# Altium integrated library AD8226ARZ.IntLib: 1 symbol
Pins are listed as number, name and electrical type; pins without a type are passive.

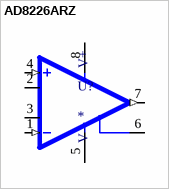
[diagram p0: symbol AD8226ARZ]

## AD8226ARZ
designator U?
Wide Supply Range, Rail-to-Rail Output Instrumentation Amplifier; MF: Analog Devices; MP: AD8226ARZ; SnapEDA_Link: https://www.snapeda.com/parts/AD8226ARZ/Analog+Devices/view-part/?ref=snap; Package: SOIC-8 Analog Devices; Value: *; Check_prices: https://www.snapeda.com/parts/AD8226ARZ/Analog+Devices/view-part/?ref=eda
footprint SOIC127P600X175-8N
pins: 1 -IN (in), 2 RG_2, 3 RG_3, 4 +IN (in), 5 -VS (power), 6 REF, 7 VOUT (out), 8 +VS (power)
text: V+; V-